# Altium footprint library PCBLib.PcbLib: 1 footprints
Each footprint in its own frame and in the unit in brackets; x right, y up, seen from the top. Pads: shape width x height; smd on the part's side, far side on the other; paste and mask are expansions set on the pad; w line width, h text height; cw(c..) or ccw(c..) is an arc to the next point about the centre after c.
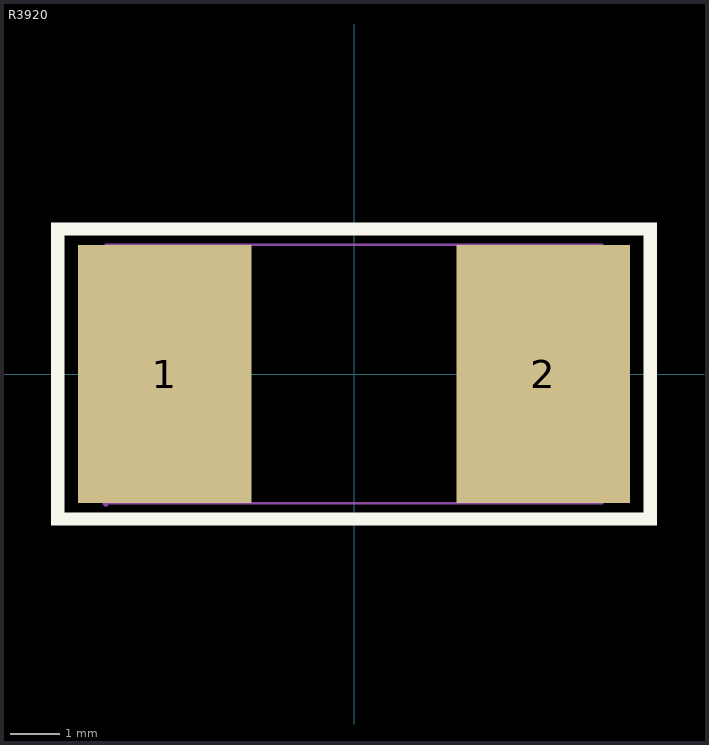
[diagram p0: the footprint, top view; thin cyan lines are the x and y axes]

## R3920 [mm]
pads (2):
  rect 3.5x5.2 smd: 1(-3.81,0) 2(3.81,0)
Top Overlay:
  region: -6.096,-3.048 -6.096,3.048 -5.842,3.048 6.096,3.048 6.096,2.794 -5.842,2.794 -5.842,-3.048
  region: 6.096,3.048 6.096,-3.048 5.842,-3.048 5.842,2.794
  region: 5.842,-3.048 -5.842,-3.048 -5.842,-2.794 5.842,-2.794
Mechanical 15:
  region: -4.94,-2.6 -4.94,-2.575 -4.975,-2.54 -5.025,-2.54 -5.06,-2.575 -5.06,-2.6 -5.06,-2.625 -5.025,-2.66 -4.975,-2.66 -4.94,-2.625 -4.94,-2.6
  region: -5,2.6 -2.25,2.6 -2.25,-2.6 -5,-2.6
  region: 5,-2.6 2.25,-2.6 2.25,2.6 5,2.6
  lines w0.051: -5,-2.6 5,-2.6 5,2.6 -5,2.6 -5,-2.6